# EAGLE library part PCA9624PW,112 (library custom)
LED driver
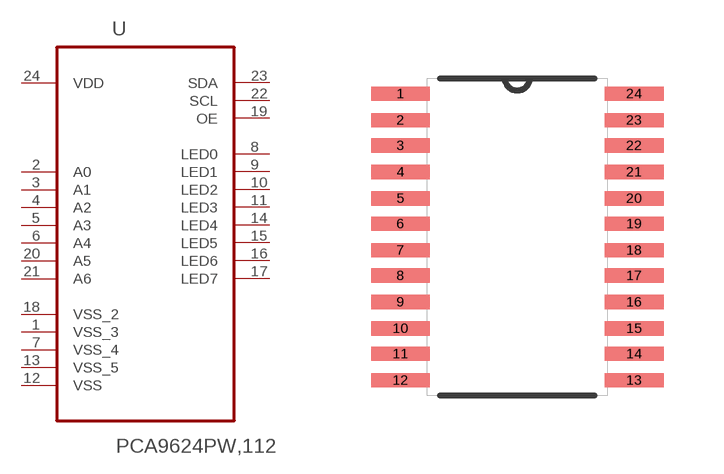
[diagram p11: symbol with the pads of SOP65P640X110-24N; footprint SOP65P640X110-24N]

Designator prefix U

## PCA9624PW,112 (AVAILABILITY: Good; DESCRIPTION: IC LED DRIVER LINEAR DIM 24TSSOP; MF: NXP Semiconductors; MP: PCA9624PW,112; PACKAGE: TSSOP-24 NXP Semiconductors; PRICE: 1.14 USD)  [SOP65P640X110-24N]
1  VSS_3  pwr
2  A0  in
3  A1  in
4  A2  in
5  A3  in
6  A4  in
7  VSS_4  pwr
8  LED0  out
9  LED1  out
10  LED2  out
11  LED3  out
12  VSS  pwr
13  VSS_5  pwr
14  LED4  out
15  LED5  out
16  LED6  out
17  LED7  out
18  VSS_2  pwr
19  OE  in
20  A5  in
21  A6  in
22  SCL  in
23  SDA
24  VDD  pwr

## Footprint SOP65P640X110-24N (pad centres in mm)
smd 1.473 x 0.356: 1 -2.921,3.581; 2 -2.921,2.921; 3 -2.921,2.286; 4 -2.921,1.626; 5 -2.921,0.965; 6 -2.921,0.33; 7 -2.921,-0.33; 8 -2.921,-0.965; 9 -2.921,-1.626; 10 -2.921,-2.286; 11 -2.921,-2.921; 12 -2.921,-3.581; 13 2.921,-3.581; 14 2.921,-2.921; 15 2.921,-2.286; 16 2.921,-1.626; 17 2.921,-0.965; 18 2.921,-0.33; 19 2.921,0.33; 20 2.921,0.965; 21 2.921,1.626; 22 2.921,2.286; 23 2.921,2.921; 24 2.921,3.581